# Altium footprint library PcbLib1.PcbLib: 1 footprints
Each footprint in its own frame and in the unit in brackets; x right, y up, seen from the top. Pads: shape width x height; smd on the part's side, far side on the other; paste and mask are expansions set on the pad; w line width, h text height; cw(c..) or ccw(c..) is an arc to the next point about the centre after c.
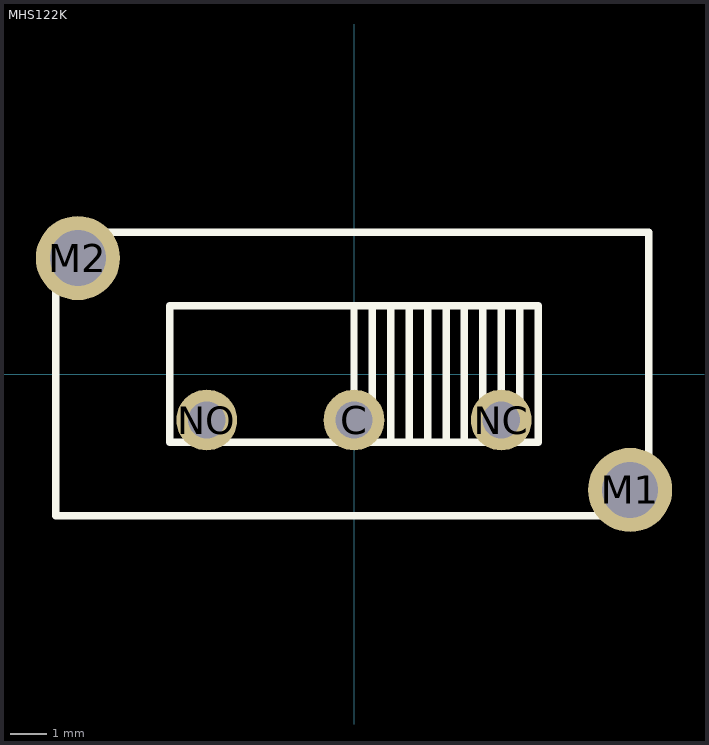
[diagram p0: the footprint, top view; thin cyan lines are the x and y axes]

## MHS122K [mil]
pads (5):
  round 65 hole 40: C(0,-49.21) NC(157.48,-49.21) NO(-157.48,-49.21)
  round 90 hole 60: M1(295.28,-124.02) M2(-295.28,124.02)
Top Overlay:
  lines w8: -196.85,-25.59 -196.85,72.83 196.85,72.83 196.85,-25.59 ; -196.85,25.59 -196.85,-72.83 196.85,-72.83 196.85,25.59 ; 0,-72.83 0,25.59 ; 0,-25.59 0,72.83 ; 19.68,-25.59 19.68,72.83 39.37,72.83 39.37,-25.59 ; 19.68,25.59 19.68,-72.83 39.37,-72.83 39.37,25.59 ; 59.06,-25.59 59.06,72.83 78.74,72.83 78.74,-25.59 ; 59.06,25.59 59.06,-72.83 78.74,-72.83 78.74,25.59 ; 98.43,-25.59 98.43,72.83 118.11,72.83 118.11,-25.59 ; 98.43,25.59 98.43,-72.83 118.11,-72.83 118.11,25.59 ; 137.8,-25.59 137.8,72.83 157.48,72.83 157.48,-25.59 ; 137.8,25.59 137.8,-72.83 157.48,-72.83 157.48,25.59 ; 177.17,-72.83 177.17,25.59 ; 177.17,-25.59 177.17,72.83 ; 322.83,-151.57 -318.9,-151.57 ; -318.9,-151.57 -318.9,151.57 ; -318.9,-151.57 314.96,-151.57 ; -318.9,-151.57 -318.9,151.57 ; -318.9,151.57 314.96,151.57 ; 314.96,-151.57 314.96,151.57 ; 314.96,-151.57 314.96,151.57
3D body: height 430, standoff 280, extent 0.66,-82.51 165.36,82.52
3D body: height 150, standoff 100, extent -157.48,-82.68 157.48,78.74
3D body: height 150, standoff 100, extent -59.06,-114.17 255.91,118.11
3D body: height 150, standoff 100, extent -314.96,-129.92 322.84,-114.17
3D body: height 150, standoff 30, extent -318.9,-129.92 314.96,133.86
3D body: height 150, standoff 100, extent -322.83,118.11 314.96,133.86
3D body: height 150, standoff 100, extent -295.28,-114.17 295.28,118.11
3D body: height 150, standoff 100, extent -171.26,-57.08 -143.7,-41.34
3D body: height 150, standoff 100, extent -13.78,-57.08 13.78,-41.34
3D body: height 150, standoff 100, extent 143.7,-57.08 171.26,-41.34
3D body: height 150, standoff 100, extent 277.56,-131.89 313,-116.14
3D body: height 150, standoff 100, extent -312.99,116.14 -277.56,131.89